# Altium footprint library busbar.PCBLIB: 18 footprints (part 2 of 2)
Each footprint in its own frame and in the unit in brackets; x right, y up, seen from the top. Pads: shape width x height; smd on the part's side, far side on the other; paste and mask are expansions set on the pad; w line width, h text height; cw(c..) or ccw(c..) is an arc to the next point about the centre after c.
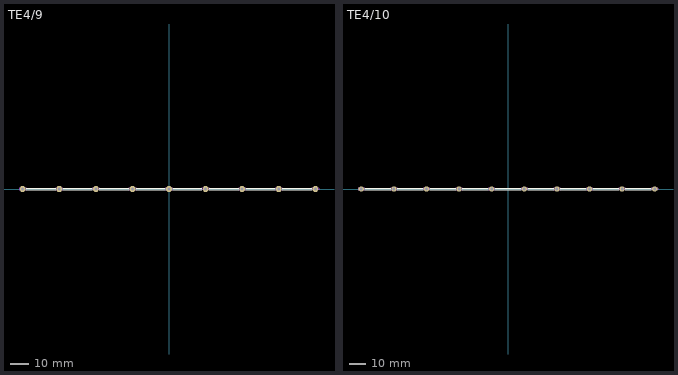
[diagram p1: the footprints below, top view; thin cyan lines are the x and y axes]

## TE4/9 [mil]
pads (9):
  oct 124x124 hole 63: 1(-3200,0) 2(-2400,0) 3(-1600,0) 4(-800,0) 5(0,0) 6(800,0) 7(1600,0) 8(2400,0) 9(3200,0)
Top Overlay:
  lines w6: -3120,-20 -2480,-20 ; -3120,20 -2480,20 ; -2320,-20 -1680,-20 ; -2320,20 -1680,20 ; -1520,-20 -880,-20 ; -1520,20 -880,20 ; -720,-20 -80,-20 ; -720,20 -80,20 ; 80,-20 720,-20 ; 80,20 720,20 ; 880,-20 1520,-20 ; 880,20 1520,20 ; 1680,-20 2320,-20 ; 1680,20 2320,20 ; 2480,-20 3120,-20 ; 2480,20 3120,20
Mechanical 16:
  lines w6: -3120,-20 -3280,-20 -3280,20 -3120,20 ; -2480,-20 -2320,-20 ; -2480,20 -2320,20 ; -1680,-20 -1520,-20 ; -1680,20 -1520,20 ; -880,-20 -720,-20 ; -880,20 -720,20 ; -80,-20 80,-20 ; -80,20 80,20 ; 720,-20 880,-20 ; 720,20 880,20 ; 1520,-20 1680,-20 ; 1520,20 1680,20 ; 2320,-20 2480,-20 ; 2320,20 2480,20 ; 3120,-20 3280,-20 3280,20 3120,20

## TE4/10 [mil]
pads (10):
  oct 124x124 hole 63: 1(-3600,0) 2(-2800,0) 3(-2000,0) 4(-1200,0) 5(-400,0) 6(400,0) 7(1200,0) 8(2000,0) 9(2800,0) 10(3600,0)
Top Overlay:
  lines w6: -3520,-20 -2880,-20 ; -3520,20 -2880,20 ; -2720,-20 -2080,-20 ; -2720,20 -2080,20 ; -1920,-20 -1280,-20 ; -1920,20 -1280,20 ; -1120,-20 -480,-20 ; -1120,20 -480,20 ; -320,-20 320,-20 ; -320,20 320,20 ; 480,-20 1120,-20 ; 480,20 1120,20 ; 1280,-20 1920,-20 ; 1280,20 1920,20 ; 2080,-20 2720,-20 ; 2080,20 2720,20 ; 2880,-20 3520,-20 ; 2880,20 3520,20
Mechanical 16:
  lines w6: -3520,-20 -3680,-20 -3680,20 -3520,20 ; -2880,-20 -2720,-20 ; -2880,20 -2720,20 ; -2080,-20 -1920,-20 ; -2080,20 -1920,20 ; -1280,-20 -1120,-20 ; -1280,20 -1120,20 ; -480,-20 -320,-20 ; -480,20 -320,20 ; 320,-20 480,-20 ; 320,20 480,20 ; 1120,-20 1280,-20 ; 1120,20 1280,20 ; 1920,-20 2080,-20 ; 1920,20 2080,20 ; 2720,-20 2880,-20 ; 2720,20 2880,20 ; 3520,-20 3680,-20 3680,20 3520,20